# Altium integrated library MAX-M8.IntLib: 1 symbol
Pins are listed as number, name and electrical type; pins without a type are passive.

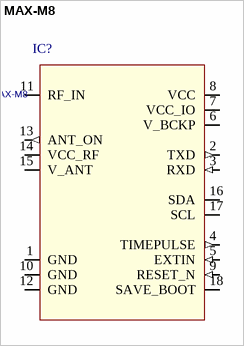
[diagram p0: symbol MAX-M8]

## MAX-M8
designator IC?
PDF: http://www.u-blox.com/images/downloads/Product_Docs/MAX-M8_DataSheet_(UBX-13004644).pdf; BUY_LINK: *; PRICE: *; ID: MAX-M8
footprint MAX-M8
pins: 1 GND, 2 TXD (out), 3 RXD (in), 4 TIMEPULSE (out), 5 EXTIN (in), 6 V_BCKP, 7 VCC_IO, 8 VCC, 9 RESET_N (in), 10 GND, 11 RF_IN, 12 GND, 13 ANT_ON (out), 14 VCC_RF, 15 V_ANT, 16 SDA (io), 17 SCL (io), 18 SAVE_BOOT